# Altium footprint library PcbLib1.PcbLib: 3 footprints
Each footprint in its own frame and in the unit in brackets; x right, y up, seen from the top. Pads: shape width x height; smd on the part's side, far side on the other; paste and mask are expansions set on the pad; w line width, h text height; cw(c..) or ccw(c..) is an arc to the next point about the centre after c.
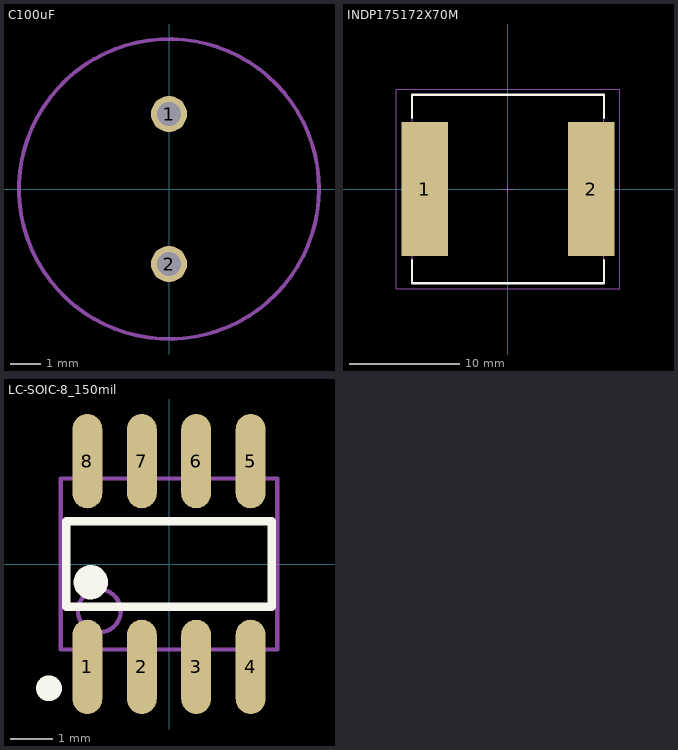
[diagram p0: the footprints below, top view; thin cyan lines are the x and y axes]

## C100uF [mm]
height 20
pads (2):
  round 1.2 hole 0.8: 1(0,2.5) 2(0,-2.5)
Mechanical 15:
  circle w0.127: c0,0 r5

## INDP175172X70M [mm] "Precision Wire Wound Inductor, 2-Leads, Body 17.50x17.15mm, IPC Low Density"
height 7
pads (2):
  rect 4.25x12.2 smd: 1(-7.575,0) 2(7.575,0)
Top Overlay:
  lines w0.2: -8.75,-6.5 -8.75,-8.6 8.75,-8.6 8.75,-6.5 ; -8.75,6.5 -8.75,8.6 8.75,8.6 8.75,6.5
Mechanical 13:
  lines w0.1: -8.75,-8.575 8.75,-8.575 8.75,8.575 -8.75,8.575 -8.75,-8.575
Mechanical 15:
  lines w0.05: -10.175,-9.1 10.175,-9.1 10.175,9.1 -10.175,9.1 -10.175,-9.1
  lines w0.1: -0.5,0 0.5,0 ; 0,-0.5 0,0.5
3D body: height 7, standoff 0, extent -8.75,-8.575 8.75,8.575

## LC-SOIC-8_150mil [mm]
pads (8):
  oval 0.7x2.2 smd: 1(-1.905,-2.4) 2(-0.635,-2.4) 3(0.635,-2.4) 4(1.905,-2.4) 5(1.905,2.4) 6(0.635,2.4) 7(-0.635,2.4) 8(-1.905,2.4)
Top Overlay:
  circle w0.3: c-2.8,-2.9 r0.15
  circle w0.4: c-1.825,-0.425 r0.2
  lines w0.2: -2.4,-1 2.4,-1 2.4,1 -2.4,1 -2.4,-1
Mechanical 13:
  circle w0.1: c-1.625,-1.095 r0.5
  lines w0.1: -2.525,-1.995 2.525,-1.995 2.525,1.995 -2.525,1.995 -2.525,-1.995